# EAGLE library part 734-508 (library con-wago_3.81mm)
Serie 734, Federleiste mit geraden Einlötstiften / Series 734, Female connector with straight solder pins Polzahl / Pole No.: 8 Bemessungsspannung / Rated Voltage: 160 V Nennstrom / Nominal Current: 10 A Lötstiftlänge: / Solder Pin Length: 3.8 mm Farbe / Color: orange / orange Stand: 01.01.2012. Die jeweils aktuellen Daten zu diesem Artikel finden Sie in unserem Produktkatalog, den Sie unter www.wago.com einsehen können. As of: 01/01/2012. Please find the newest data for this article in our product catalogue, which can be viewed under www.wago.com.
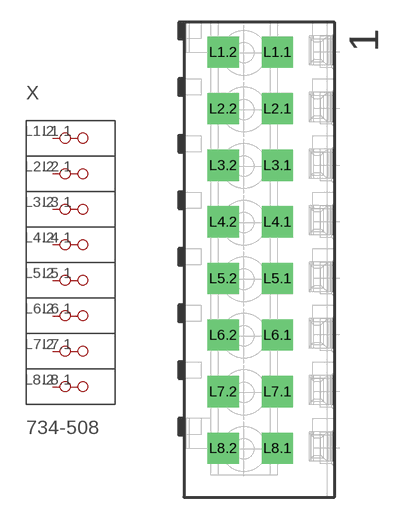
[diagram p41: symbol with the pads of P-734-508; footprint P-734-508]

Designator prefix X

## 734-508  [P-734-508]
L1.1  P1.1
L1.2  P1.2
L2.1  P2.1
L2.2  P2.2
L3.1  P3.1
L3.2  P3.2
L4.1  P4.1
L4.2  P4.2
L5.1  P5.1
L5.2  P5.2
L6.1  P6.1
L6.2  P6.2
L7.1  P7.1
L7.2  P7.2
L8.1  P8.1
L8.2  P8.2

## Footprint P-734-508 (pad centres in mm)
drill 1.4 square: L1.1 1.225,13.98; L1.2 -2.425,13.98; L2.1 1.225,10.17; L2.2 -2.425,10.17; L3.1 1.225,6.36; L3.2 -2.425,6.36; L4.1 1.225,2.55; L4.2 -2.425,2.55; L5.1 1.225,-1.26; L5.2 -2.425,-1.26; L6.1 1.225,-5.07; L6.2 -2.425,-5.07; L7.1 1.225,-8.88; L7.2 -2.425,-8.88; L8.1 1.225,-12.69; L8.2 -2.425,-12.69